# Altium schematic symbol library jlcpcb_2025_04_ferrites_extended_0805.schlib: 546 symbols (part 10 of 10)
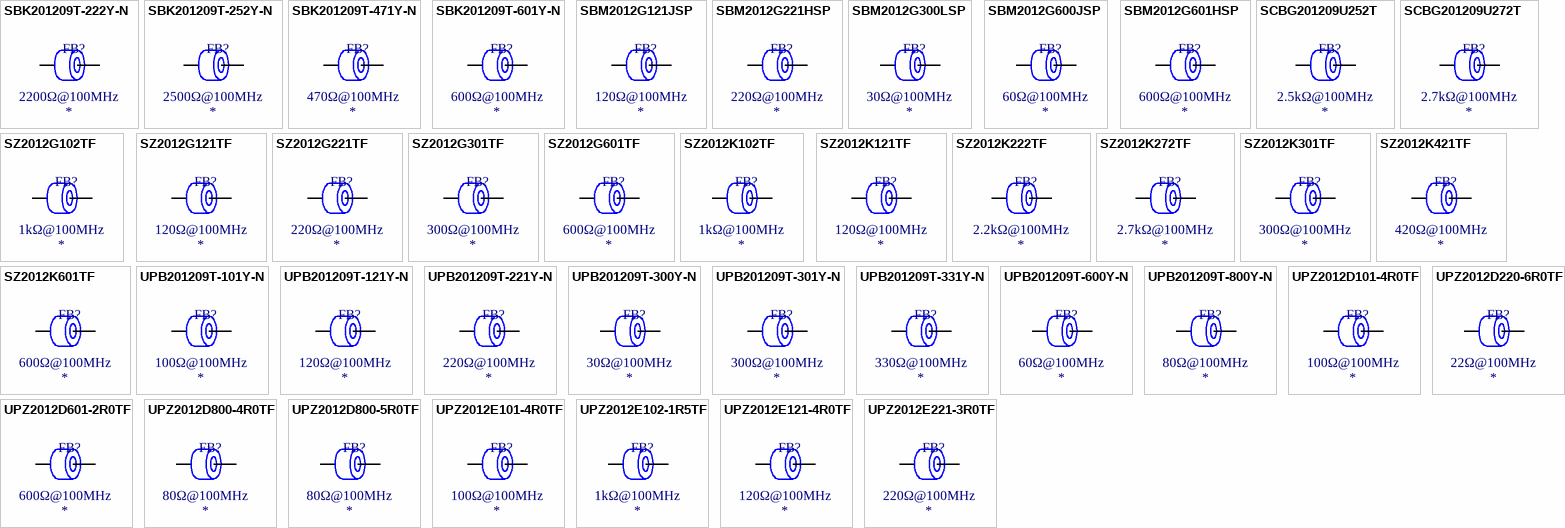
[diagram p22: symbols SBK201209T-222Y-N to UPZ2012E221-3R0TF]

## UPB201209T-331Y-N
designator FB?  Impedance @ Frequency: 330Ω@100MHz
Ferrite, 330Ω@100MHz, ±25%, 0.05Ω, 3000mA, SMD 0805; Manufacturer: Chilisin Elec; Manufacturer Part Number: UPB201209T-331Y-N; Package Size: 0805; JLCPCB Basic Part: No; JLCPCB Part Number: C108317; Supplier 1: LCSC; Category: Ferrite Beads; Supplier Part Number 1: C108317; Tolerance: ±25%; Rated Current: 3000mA; DC Resistance: 0.05Ω; RoHS: Yes; ComponentLink1Description: Datasheet; ComponentLink1URL: https://wmsc.lcsc.com/wmsc/upload/file/pdf/v2/lcsc/2304140030_Chilisin-Elec-UPB201209T-331Y-N_C108317.pdf; ComponentLink2Description: JLCPCB Part URL; ComponentLink2URL: https://jlcpcb.com/partdetail/C108317; ComponentLink3Description: LCSC Part URL; ComponentLink3URL: https://lcsc.com/product-detail/Ferrite-Beads_Chilisin-Elec-Chilisin-Elec-UPB201209T-331Y-N_C108317.html
footprint FB-0805 (0805 (2012M) Ferrite)
pins: 1, 2

## UPB201209T-600Y-N
designator FB?  Impedance @ Frequency: 60Ω@100MHz
Ferrite, 60Ω@100MHz, ±25%, 0.018Ω, 6000mA, SMD 0805; Manufacturer: Chilisin Elec; Manufacturer Part Number: UPB201209T-600Y-N; Package Size: 0805; JLCPCB Basic Part: No; JLCPCB Part Number: C285589; Supplier 1: LCSC; Category: Ferrite Beads; Supplier Part Number 1: C285589; Tolerance: ±25%; Rated Current: 6000mA; DC Resistance: 0.018Ω; RoHS: Yes; ComponentLink1Description: Datasheet; ComponentLink1URL: https://wmsc.lcsc.com/wmsc/upload/file/pdf/v2/lcsc/2304140030_Chilisin-Elec-UPB201209T-600Y-N_C285589.pdf; ComponentLink2Description: JLCPCB Part URL; ComponentLink2URL: https://jlcpcb.com/partdetail/C285589; ComponentLink3Description: LCSC Part URL; ComponentLink3URL: https://lcsc.com/product-detail/Ferrite-Beads_Chilisin-Elec-Chilisin-Elec-UPB201209T-600Y-N_C285589.html
footprint FB-0805 (0805 (2012M) Ferrite)
pins: 1, 2

## UPB201209T-800Y-N
designator FB?  Impedance @ Frequency: 80Ω@100MHz
Ferrite, 80Ω@100MHz, ±25%, 0.02Ω, 6000mA, SMD 0805; Manufacturer: Chilisin Elec; Manufacturer Part Number: UPB201209T-800Y-N; Package Size: 0805; JLCPCB Basic Part: No; JLCPCB Part Number: C142026; Supplier 1: LCSC; Category: Ferrite Beads; Supplier Part Number 1: C142026; Tolerance: ±25%; Rated Current: 6000mA; DC Resistance: 0.02Ω; RoHS: Yes; ComponentLink1Description: Datasheet; ComponentLink1URL: https://wmsc.lcsc.com/wmsc/upload/file/pdf/v2/lcsc/2304140030_Chilisin-Elec-UPB201209T-800Y-N_C142026.pdf; ComponentLink2Description: JLCPCB Part URL; ComponentLink2URL: https://jlcpcb.com/partdetail/C142026; ComponentLink3Description: LCSC Part URL; ComponentLink3URL: https://lcsc.com/product-detail/Ferrite-Beads_Chilisin-Elec-Chilisin-Elec-UPB201209T-800Y-N_C142026.html
footprint FB-0805 (0805 (2012M) Ferrite)
pins: 1, 2

## UPZ2012D101-4R0TF
designator FB?  Impedance @ Frequency: 100Ω@100MHz
Ferrite, 100Ω@100MHz, ±25%, 4A, SMD 0805; Manufacturer: Sunlord; Manufacturer Part Number: UPZ2012D101-4R0TF; Package Size: 0805; JLCPCB Basic Part: No; JLCPCB Part Number: C370576; Supplier 1: LCSC; Category: Ferrite Beads; Supplier Part Number 1: C370576; Tolerance: ±25%; Rated Current: 4A; RoHS: Yes; ComponentLink1Description: Datasheet; ComponentLink1URL: https://wmsc.lcsc.com/wmsc/upload/file/pdf/v2/lcsc/2310301642_Sunlord-UPZ2012D101-4R0TF_C370576.pdf; ComponentLink2Description: JLCPCB Part URL; ComponentLink2URL: https://jlcpcb.com/partdetail/C370576; ComponentLink3Description: LCSC Part URL; ComponentLink3URL: https://lcsc.com/product-detail/Ferrite-Beads_Sunlord-Sunlord-UPZ2012D101-4R0TF_C370576.html
pins: 1, 2

## UPZ2012D220-6R0TF
designator FB?  Impedance @ Frequency: 22Ω@100MHz
Ferrite, 22Ω@100MHz, ±25%, 10mΩ, 6A, SMD 0805; Manufacturer: Sunlord; Manufacturer Part Number: UPZ2012D220-6R0TF; Package Size: 0805; JLCPCB Basic Part: No; JLCPCB Part Number: C98305; Supplier 1: LCSC; Category: Ferrite Beads; Supplier Part Number 1: C98305; Tolerance: ±25%; Rated Current: 6A; DC Resistance: 10mΩ; RoHS: Yes; ComponentLink1Description: Datasheet; ComponentLink1URL: https://wmsc.lcsc.com/wmsc/upload/file/pdf/v2/lcsc/2310301642_Sunlord-UPZ2012D220-6R0TF_C98305.pdf; ComponentLink2Description: JLCPCB Part URL; ComponentLink2URL: https://jlcpcb.com/partdetail/C98305; ComponentLink3Description: LCSC Part URL; ComponentLink3URL: https://lcsc.com/product-detail/Ferrite-Beads_Sunlord-Sunlord-UPZ2012D220-6R0TF_C98305.html
footprint FB-0805 (0805 (2012M) Ferrite)
pins: 1, 2

## UPZ2012D601-2R0TF
designator FB?  Impedance @ Frequency: 600Ω@100MHz
Ferrite, 600Ω@100MHz, ±25%, 2A, SMD 0805; Manufacturer: Sunlord; Manufacturer Part Number: UPZ2012D601-2R0TF; Package Size: 0805; JLCPCB Basic Part: No; JLCPCB Part Number: C370578; Supplier 1: LCSC; Category: Ferrite Beads; Supplier Part Number 1: C370578; Tolerance: ±25%; Rated Current: 2A; RoHS: Yes; ComponentLink1Description: Datasheet; ComponentLink1URL: https://wmsc.lcsc.com/wmsc/upload/file/pdf/v2/lcsc/2310301642_Sunlord-UPZ2012D601-2R0TF_C370578.pdf; ComponentLink2Description: JLCPCB Part URL; ComponentLink2URL: https://jlcpcb.com/partdetail/C370578; ComponentLink3Description: LCSC Part URL; ComponentLink3URL: https://lcsc.com/product-detail/Ferrite-Beads_Sunlord-Sunlord-UPZ2012D601-2R0TF_C370578.html
pins: 1, 2

## UPZ2012D800-4R0TF
designator FB?  Impedance @ Frequency: 80Ω@100MHz
Ferrite, 80Ω@100MHz, ±25%, 20mΩ, 4A, SMD 0805; Manufacturer: Sunlord; Manufacturer Part Number: UPZ2012D800-4R0TF; Package Size: 0805; JLCPCB Basic Part: No; JLCPCB Part Number: C145060; Supplier 1: LCSC; Category: Ferrite Beads; Supplier Part Number 1: C145060; Tolerance: ±25%; Rated Current: 4A; DC Resistance: 20mΩ; RoHS: Yes; ComponentLink1Description: Datasheet; ComponentLink1URL: https://wmsc.lcsc.com/wmsc/upload/file/pdf/v2/lcsc/2310301642_Sunlord-UPZ2012D800-4R0TF_C145060.pdf; ComponentLink2Description: JLCPCB Part URL; ComponentLink2URL: https://jlcpcb.com/partdetail/C145060; ComponentLink3Description: LCSC Part URL; ComponentLink3URL: https://lcsc.com/product-detail/Ferrite-Beads_Sunlord-Sunlord-UPZ2012D800-4R0TF_C145060.html
footprint FB-0805 (0805 (2012M) Ferrite)
pins: 1, 2

## UPZ2012D800-5R0TF
designator FB?  Impedance @ Frequency: 80Ω@100MHz
Ferrite, 80Ω@100MHz, ±25%, 5A, SMD 0805; Manufacturer: Sunlord; Manufacturer Part Number: UPZ2012D800-5R0TF; Package Size: 0805; JLCPCB Basic Part: No; JLCPCB Part Number: C370579; Supplier 1: LCSC; Category: Ferrite Beads; Supplier Part Number 1: C370579; Tolerance: ±25%; Rated Current: 5A; RoHS: Yes; ComponentLink1Description: Datasheet; ComponentLink1URL: https://wmsc.lcsc.com/wmsc/upload/file/pdf/v2/lcsc/2310301642_Sunlord-UPZ2012D800-5R0TF_C370579.pdf; ComponentLink2Description: JLCPCB Part URL; ComponentLink2URL: https://jlcpcb.com/partdetail/C370579; ComponentLink3Description: LCSC Part URL; ComponentLink3URL: https://lcsc.com/product-detail/Ferrite-Beads_Sunlord-Sunlord-UPZ2012D800-5R0TF_C370579.html
pins: 1, 2

## UPZ2012E101-4R0TF
designator FB?  Impedance @ Frequency: 100Ω@100MHz
Ferrite, 100Ω@100MHz, ±25%, 4A, SMD 0805; Manufacturer: Sunlord; Manufacturer Part Number: UPZ2012E101-4R0TF; Package Size: 0805; JLCPCB Basic Part: No; JLCPCB Part Number: C370580; Supplier 1: LCSC; Category: Ferrite Beads; Supplier Part Number 1: C370580; Tolerance: ±25%; Rated Current: 4A; RoHS: Yes; ComponentLink1Description: Datasheet; ComponentLink1URL: https://wmsc.lcsc.com/wmsc/upload/file/pdf/v2/lcsc/2310301642_Sunlord-UPZ2012E101-4R0TF_C370580.pdf; ComponentLink2Description: JLCPCB Part URL; ComponentLink2URL: https://jlcpcb.com/partdetail/C370580; ComponentLink3Description: LCSC Part URL; ComponentLink3URL: https://lcsc.com/product-detail/Ferrite-Beads_Sunlord-Sunlord-UPZ2012E101-4R0TF_C370580.html
pins: 1, 2

## UPZ2012E102-1R5TF
designator FB?  Impedance @ Frequency: 1kΩ@100MHz
Ferrite, 1kΩ@100MHz, ±25%, 120mΩ, 1.5A, SMD 0805; Manufacturer: Sunlord; Manufacturer Part Number: UPZ2012E102-1R5TF; Package Size: 0805; JLCPCB Basic Part: No; JLCPCB Part Number: C98309; Supplier 1: LCSC; Category: Ferrite Beads; Supplier Part Number 1: C98309; Tolerance: ±25%; Rated Current: 1.5A; DC Resistance: 120mΩ; RoHS: Yes; ComponentLink1Description: Datasheet; ComponentLink1URL: https://wmsc.lcsc.com/wmsc/upload/file/pdf/v2/lcsc/2310301642_Sunlord-UPZ2012E102-1R5TF_C98309.pdf; ComponentLink2Description: JLCPCB Part URL; ComponentLink2URL: https://jlcpcb.com/partdetail/C98309; ComponentLink3Description: LCSC Part URL; ComponentLink3URL: https://lcsc.com/product-detail/Ferrite-Beads_Sunlord-Sunlord-UPZ2012E102-1R5TF_C98309.html
footprint FB-0805 (0805 (2012M) Ferrite)
pins: 1, 2

## UPZ2012E121-4R0TF
designator FB?  Impedance @ Frequency: 120Ω@100MHz
Ferrite, 120Ω@100MHz, ±25%, 20mΩ, 4A, SMD 0805; Manufacturer: Sunlord; Manufacturer Part Number: UPZ2012E121-4R0TF; Package Size: 0805; JLCPCB Basic Part: No; JLCPCB Part Number: C97001; Supplier 1: LCSC; Category: Ferrite Beads; Supplier Part Number 1: C97001; Tolerance: ±25%; Rated Current: 4A; DC Resistance: 20mΩ; RoHS: Yes; ComponentLink1Description: Datasheet; ComponentLink1URL: https://wmsc.lcsc.com/wmsc/upload/file/pdf/v2/lcsc/2310301642_Sunlord-UPZ2012E121-4R0TF_C97001.pdf; ComponentLink2Description: JLCPCB Part URL; ComponentLink2URL: https://jlcpcb.com/partdetail/C97001; ComponentLink3Description: LCSC Part URL; ComponentLink3URL: https://lcsc.com/product-detail/Ferrite-Beads_Sunlord-Sunlord-UPZ2012E121-4R0TF_C97001.html
footprint FB-0805 (0805 (2012M) Ferrite)
pins: 1, 2

## UPZ2012E221-3R0TF
designator FB?  Impedance @ Frequency: 220Ω@100MHz
Ferrite, 220Ω@100MHz, ±25%, 40mΩ, 3A, SMD 0805; Manufacturer: Sunlord; Manufacturer Part Number: UPZ2012E221-3R0TF; Package Size: 0805; JLCPCB Basic Part: No; JLCPCB Part Number: C154119; Supplier 1: LCSC; Category: Ferrite Beads; Supplier Part Number 1: C154119; Tolerance: ±25%; Rated Current: 3A; DC Resistance: 40mΩ; RoHS: Yes; ComponentLink1Description: Datasheet; ComponentLink1URL: https://wmsc.lcsc.com/wmsc/upload/file/pdf/v2/lcsc/2310301642_Sunlord-UPZ2012E221-3R0TF_C154119.pdf; ComponentLink2Description: JLCPCB Part URL; ComponentLink2URL: https://jlcpcb.com/partdetail/C154119; ComponentLink3Description: LCSC Part URL; ComponentLink3URL: https://lcsc.com/product-detail/Ferrite-Beads_Sunlord-Sunlord-UPZ2012E221-3R0TF_C154119.html
footprint FB-0805 (0805 (2012M) Ferrite)
pins: 1, 2

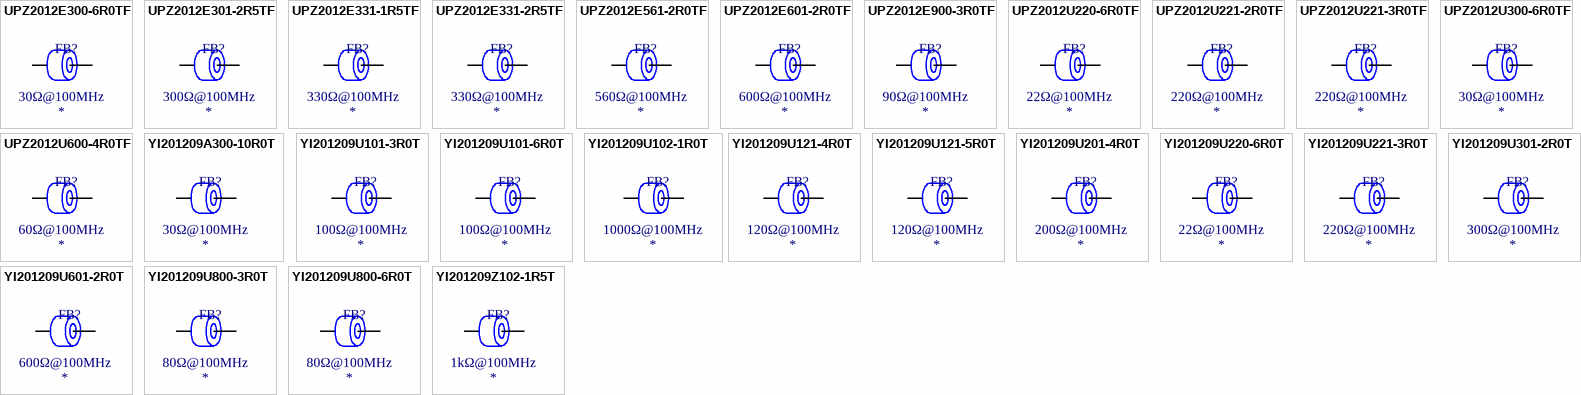
[diagram p13: symbols UPZ2012E300-6R0TF to YI201209Z102-1R5T]

## UPZ2012E300-6R0TF
designator FB?  Impedance @ Frequency: 30Ω@100MHz
Ferrite, 30Ω@100MHz, ±25%, 10mΩ, 6A, SMD 0805; Manufacturer: Sunlord; Manufacturer Part Number: UPZ2012E300-6R0TF; Package Size: 0805; JLCPCB Basic Part: No; JLCPCB Part Number: C98307; Supplier 1: LCSC; Category: Ferrite Beads; Supplier Part Number 1: C98307; Tolerance: ±25%; Rated Current: 6A; DC Resistance: 10mΩ; RoHS: Yes; ComponentLink1Description: Datasheet; ComponentLink1URL: https://wmsc.lcsc.com/wmsc/upload/file/pdf/v2/lcsc/2310301642_Sunlord-UPZ2012E300-6R0TF_C98307.pdf; ComponentLink2Description: JLCPCB Part URL; ComponentLink2URL: https://jlcpcb.com/partdetail/C98307; ComponentLink3Description: LCSC Part URL; ComponentLink3URL: https://lcsc.com/product-detail/Ferrite-Beads_Sunlord-Sunlord-UPZ2012E300-6R0TF_C98307.html
footprint FB-0805 (0805 (2012M) Ferrite)
pins: 1, 2

## UPZ2012E301-2R5TF
designator FB?  Impedance @ Frequency: 300Ω@100MHz
Ferrite, 300Ω@100MHz, ±25%, 2.5A, SMD 0805; Manufacturer: Sunlord; Manufacturer Part Number: UPZ2012E301-2R5TF; Package Size: 0805; JLCPCB Basic Part: No; JLCPCB Part Number: C316333; Supplier 1: LCSC; Category: Ferrite Beads; Supplier Part Number 1: C316333; Tolerance: ±25%; Rated Current: 2.5A; RoHS: Yes; ComponentLink1Description: Datasheet; ComponentLink1URL: https://wmsc.lcsc.com/wmsc/upload/file/pdf/v2/lcsc/2310301642_Sunlord-UPZ2012E301-2R5TF_C316333.pdf; ComponentLink2Description: JLCPCB Part URL; ComponentLink2URL: https://jlcpcb.com/partdetail/C316333; ComponentLink3Description: LCSC Part URL; ComponentLink3URL: https://lcsc.com/product-detail/Ferrite-Beads_Sunlord-Sunlord-UPZ2012E301-2R5TF_C316333.html
pins: 1, 2

## UPZ2012E331-1R5TF
designator FB?  Impedance @ Frequency: 330Ω@100MHz
Ferrite, 330Ω@100MHz, ±25%, 1.5A, SMD 0805; Manufacturer: Sunlord; Manufacturer Part Number: UPZ2012E331-1R5TF; Package Size: 0805; JLCPCB Basic Part: No; JLCPCB Part Number: C279902; Supplier 1: LCSC; Category: Ferrite Beads; Supplier Part Number 1: C279902; Tolerance: ±25%; Rated Current: 1.5A; RoHS: Yes; ComponentLink1Description: Datasheet; ComponentLink1URL: https://wmsc.lcsc.com/wmsc/upload/file/pdf/v2/lcsc/2310301642_Sunlord-UPZ2012E331-1R5TF_C279902.pdf; ComponentLink2Description: JLCPCB Part URL; ComponentLink2URL: https://jlcpcb.com/partdetail/C279902; ComponentLink3Description: LCSC Part URL; ComponentLink3URL: https://lcsc.com/product-detail/Ferrite-Beads_Sunlord-Sunlord-UPZ2012E331-1R5TF_C279902.html
pins: 1, 2

## UPZ2012E331-2R5TF
designator FB?  Impedance @ Frequency: 330Ω@100MHz
Ferrite, 330Ω@100MHz, ±25%, 50mΩ, 2.5A, SMD 0805; Manufacturer: Sunlord; Manufacturer Part Number: UPZ2012E331-2R5TF; Package Size: 0805; JLCPCB Basic Part: No; JLCPCB Part Number: C145062; Supplier 1: LCSC; Category: Ferrite Beads; Supplier Part Number 1: C145062; Tolerance: ±25%; Rated Current: 2.5A; DC Resistance: 50mΩ; RoHS: Yes; ComponentLink1Description: Datasheet; ComponentLink1URL: https://wmsc.lcsc.com/wmsc/upload/file/pdf/v2/lcsc/2310301642_Sunlord-UPZ2012E331-2R5TF_C145062.pdf; ComponentLink2Description: JLCPCB Part URL; ComponentLink2URL: https://jlcpcb.com/partdetail/C145062; ComponentLink3Description: LCSC Part URL; ComponentLink3URL: https://lcsc.com/product-detail/Ferrite-Beads_Sunlord-Sunlord-UPZ2012E331-2R5TF_C145062.html
footprint FB-0805 (0805 (2012M) Ferrite)
pins: 1, 2

## UPZ2012E561-2R0TF
designator FB?  Impedance @ Frequency: 560Ω@100MHz
Ferrite, 560Ω@100MHz, ±25%, 2A, SMD 0805; Manufacturer: Sunlord; Manufacturer Part Number: UPZ2012E561-2R0TF; Package Size: 0805; JLCPCB Basic Part: No; JLCPCB Part Number: C370581; Supplier 1: LCSC; Category: Ferrite Beads; Supplier Part Number 1: C370581; Tolerance: ±25%; Rated Current: 2A; RoHS: Yes; ComponentLink1Description: Datasheet; ComponentLink1URL: https://wmsc.lcsc.com/wmsc/upload/file/pdf/v2/lcsc/2310301642_Sunlord-UPZ2012E561-2R0TF_C370581.pdf; ComponentLink2Description: JLCPCB Part URL; ComponentLink2URL: https://jlcpcb.com/partdetail/C370581; ComponentLink3Description: LCSC Part URL; ComponentLink3URL: https://lcsc.com/product-detail/Ferrite-Beads_Sunlord-Sunlord-UPZ2012E561-2R0TF_C370581.html
pins: 1, 2

## UPZ2012E601-2R0TF
designator FB?  Impedance @ Frequency: 600Ω@100MHz
Ferrite, 600Ω@100MHz, ±25%, 90mΩ, 2A, SMD 0805; Manufacturer: Sunlord; Manufacturer Part Number: UPZ2012E601-2R0TF; Package Size: 0805; JLCPCB Basic Part: No; JLCPCB Part Number: C98308; Supplier 1: LCSC; Category: Ferrite Beads; Supplier Part Number 1: C98308; Tolerance: ±25%; Rated Current: 2A; DC Resistance: 90mΩ; RoHS: Yes; ComponentLink1Description: Datasheet; ComponentLink1URL: https://wmsc.lcsc.com/wmsc/upload/file/pdf/v2/lcsc/2310301642_Sunlord-UPZ2012E601-2R0TF_C98308.pdf; ComponentLink2Description: JLCPCB Part URL; ComponentLink2URL: https://jlcpcb.com/partdetail/C98308; ComponentLink3Description: LCSC Part URL; ComponentLink3URL: https://lcsc.com/product-detail/Ferrite-Beads_Sunlord-Sunlord-UPZ2012E601-2R0TF_C98308.html
footprint FB-0805 (0805 (2012M) Ferrite)
pins: 1, 2

## UPZ2012E900-3R0TF
designator FB?  Impedance @ Frequency: 90Ω@100MHz
Ferrite, 90Ω@100MHz, ±25%, 3A, SMD 0805; Manufacturer: Sunlord; Manufacturer Part Number: UPZ2012E900-3R0TF; Package Size: 0805; JLCPCB Basic Part: No; JLCPCB Part Number: C370582; Supplier 1: LCSC; Category: Ferrite Beads; Supplier Part Number 1: C370582; Tolerance: ±25%; Rated Current: 3A; RoHS: Yes; ComponentLink1Description: Datasheet; ComponentLink1URL: https://wmsc.lcsc.com/wmsc/upload/file/pdf/v2/lcsc/2310301642_Sunlord-UPZ2012E900-3R0TF_C370582.pdf; ComponentLink2Description: JLCPCB Part URL; ComponentLink2URL: https://jlcpcb.com/partdetail/C370582; ComponentLink3Description: LCSC Part URL; ComponentLink3URL: https://lcsc.com/product-detail/Ferrite-Beads_Sunlord-Sunlord-UPZ2012E900-3R0TF_C370582.html
pins: 1, 2

## UPZ2012U220-6R0TF
designator FB?  Impedance @ Frequency: 22Ω@100MHz
Ferrite, 22Ω@100MHz, ±25%, 10mΩ, 6A, SMD 0805; Manufacturer: Sunlord; Manufacturer Part Number: UPZ2012U220-6R0TF; Package Size: 0805; JLCPCB Basic Part: No; JLCPCB Part Number: C361652; Supplier 1: LCSC; Category: Ferrite Beads; Supplier Part Number 1: C361652; Tolerance: ±25%; Rated Current: 6A; DC Resistance: 10mΩ; RoHS: Yes; ComponentLink1Description: Datasheet; ComponentLink1URL: https://wmsc.lcsc.com/wmsc/upload/file/pdf/v2/lcsc/2310301642_Sunlord-UPZ2012U220-6R0TF_C361652.pdf; ComponentLink2Description: JLCPCB Part URL; ComponentLink2URL: https://jlcpcb.com/partdetail/C361652; ComponentLink3Description: LCSC Part URL; ComponentLink3URL: https://lcsc.com/product-detail/Ferrite-Beads_Sunlord-Sunlord-UPZ2012U220-6R0TF_C361652.html
footprint FB-0805 (0805 (2012M) Ferrite)
pins: 1, 2

## UPZ2012U221-2R0TF
designator FB?  Impedance @ Frequency: 220Ω@100MHz
Ferrite, 220Ω@100MHz, ±25%, 2A, SMD 0805; Manufacturer: Sunlord; Manufacturer Part Number: UPZ2012U221-2R0TF; Package Size: 0805; JLCPCB Basic Part: No; JLCPCB Part Number: C316332; Supplier 1: LCSC; Category: Ferrite Beads; Supplier Part Number 1: C316332; Tolerance: ±25%; Rated Current: 2A; RoHS: Yes; ComponentLink1Description: Datasheet; ComponentLink1URL: https://wmsc.lcsc.com/wmsc/upload/file/pdf/v2/lcsc/2312271747_Sunlord-UPZ2012U221-2R0TF_C316332.pdf; ComponentLink2Description: JLCPCB Part URL; ComponentLink2URL: https://jlcpcb.com/partdetail/C316332; ComponentLink3Description: LCSC Part URL; ComponentLink3URL: https://lcsc.com/product-detail/Ferrite-Beads_Sunlord-Sunlord-UPZ2012U221-2R0TF_C316332.html
pins: 1, 2

## UPZ2012U221-3R0TF
designator FB?  Impedance @ Frequency: 220Ω@100MHz
Ferrite, 220Ω@100MHz, ±25%, 40mΩ, 3A, SMD 0805; Manufacturer: Sunlord; Manufacturer Part Number: UPZ2012U221-3R0TF; Package Size: 0805; JLCPCB Basic Part: No; JLCPCB Part Number: C56066; Supplier 1: LCSC; Category: Ferrite Beads; Supplier Part Number 1: C56066; Tolerance: ±25%; Rated Current: 3A; DC Resistance: 40mΩ; RoHS: Yes; ComponentLink1Description: Datasheet; ComponentLink1URL: https://wmsc.lcsc.com/wmsc/upload/file/pdf/v2/lcsc/2310301642_Sunlord-UPZ2012U221-3R0TF_C56066.pdf; ComponentLink2Description: JLCPCB Part URL; ComponentLink2URL: https://jlcpcb.com/partdetail/C56066; ComponentLink3Description: LCSC Part URL; ComponentLink3URL: https://lcsc.com/product-detail/Ferrite-Beads_Sunlord-Sunlord-UPZ2012U221-3R0TF_C56066.html
footprint FB-0805 (0805 (2012M) Ferrite)
pins: 1, 2

## UPZ2012U300-6R0TF
designator FB?  Impedance @ Frequency: 30Ω@100MHz
Ferrite, 30Ω@100MHz, ±25%, 10mΩ, 6A, SMD 0805; Manufacturer: Sunlord; Manufacturer Part Number: UPZ2012U300-6R0TF; Package Size: 0805; JLCPCB Basic Part: No; JLCPCB Part Number: C98306; Supplier 1: LCSC; Category: Ferrite Beads; Supplier Part Number 1: C98306; Tolerance: ±25%; Rated Current: 6A; DC Resistance: 10mΩ; RoHS: Yes; ComponentLink1Description: Datasheet; ComponentLink1URL: https://wmsc.lcsc.com/wmsc/upload/file/pdf/v2/lcsc/2310301642_Sunlord-UPZ2012U300-6R0TF_C98306.pdf; ComponentLink2Description: JLCPCB Part URL; ComponentLink2URL: https://jlcpcb.com/partdetail/C98306; ComponentLink3Description: LCSC Part URL; ComponentLink3URL: https://lcsc.com/product-detail/Ferrite-Beads_Sunlord-Sunlord-UPZ2012U300-6R0TF_C98306.html
footprint FB-0805 (0805 (2012M) Ferrite)
pins: 1, 2

## UPZ2012U600-4R0TF
designator FB?  Impedance @ Frequency: 60Ω@100MHz
Ferrite, 60Ω@100MHz, ±25%, 20mΩ, 4A, SMD 0805; Manufacturer: Sunlord; Manufacturer Part Number: UPZ2012U600-4R0TF; Package Size: 0805; JLCPCB Basic Part: No; JLCPCB Part Number: C145061; Supplier 1: LCSC; Category: Ferrite Beads; Supplier Part Number 1: C145061; Tolerance: ±25%; Rated Current: 4A; DC Resistance: 20mΩ; RoHS: Yes; ComponentLink1Description: Datasheet; ComponentLink1URL: https://wmsc.lcsc.com/wmsc/upload/file/pdf/v2/lcsc/2310301642_Sunlord-UPZ2012U600-4R0TF_C145061.pdf; ComponentLink2Description: JLCPCB Part URL; ComponentLink2URL: https://jlcpcb.com/partdetail/C145061; ComponentLink3Description: LCSC Part URL; ComponentLink3URL: https://lcsc.com/product-detail/Ferrite-Beads_Sunlord-Sunlord-UPZ2012U600-4R0TF_C145061.html
footprint FB-0805 (0805 (2012M) Ferrite)
pins: 1, 2

## YI201209A300-10R0T
designator FB?  Impedance @ Frequency: 30Ω@100MHz
Ferrite, 30Ω@100MHz, ±25%, 3mΩ, 10A, SMD 0805; Manufacturer: YJYCOIN; Manufacturer Part Number: YI201209A300-10R0T; Package Size: 0805; JLCPCB Basic Part: No; JLCPCB Part Number: C20416195; Supplier 1: LCSC; Category: Ferrite Beads; Supplier Part Number 1: C20416195; Tolerance: ±25%; Rated Current: 10A; DC Resistance: 3mΩ; RoHS: Yes; ComponentLink1Description: Datasheet; ComponentLink1URL: https://wmsc.lcsc.com/wmsc/upload/file/pdf/v2/lcsc/2401051808_YJYCOIN-YI201209A300-10R0T_C20416195.pdf; ComponentLink2Description: JLCPCB Part URL; ComponentLink2URL: https://jlcpcb.com/partdetail/C20416195; ComponentLink3Description: LCSC Part URL; ComponentLink3URL: https://lcsc.com/product-detail/Ferrite-Beads_YJYCOIN-YJYCOIN-YI201209A300-10R0T_C20416195.html
footprint FB-0805 (0805 (2012M) Ferrite)
pins: 1, 2

## YI201209U101-3R0T
designator FB?  Impedance @ Frequency: 100Ω@100MHz
Ferrite, 100Ω@100MHz, ±25%, 60mΩ, 3A, SMD 0805; Manufacturer: YJYCOIN; Manufacturer Part Number: YI201209U101-3R0T; Package Size: 0805; JLCPCB Basic Part: No; JLCPCB Part Number: C3011216; Supplier 1: LCSC; Category: Ferrite Beads; Supplier Part Number 1: C3011216; Tolerance: ±25%; Rated Current: 3A; DC Resistance: 60mΩ; RoHS: Yes; ComponentLink1Description: Datasheet; ComponentLink1URL: https://wmsc.lcsc.com/wmsc/upload/file/pdf/v2/lcsc/2205091530_YJYCOIN-YI201209U101-3R0T_C3011216.pdf; ComponentLink2Description: JLCPCB Part URL; ComponentLink2URL: https://jlcpcb.com/partdetail/C3011216; ComponentLink3Description: LCSC Part URL; ComponentLink3URL: https://lcsc.com/product-detail/Ferrite-Beads_YJYCOIN-YJYCOIN-YI201209U101-3R0T_C3011216.html
footprint FB-0805 (0805 (2012M) Ferrite)
pins: 1, 2

## YI201209U101-6R0T
designator FB?  Impedance @ Frequency: 100Ω@100MHz
Ferrite, 100Ω@100MHz, ±25%, 0.02Ω, 6A, SMD 0805; Manufacturer: YJYCOIN; Manufacturer Part Number: YI201209U101-6R0T; Package Size: 0805; JLCPCB Basic Part: No; JLCPCB Part Number: C2971888; Supplier 1: LCSC; Category: Ferrite Beads; Supplier Part Number 1: C2971888; Tolerance: ±25%; Rated Current: 6A; DC Resistance: 0.02Ω; RoHS: Yes; ComponentLink1Description: Datasheet; ComponentLink1URL: https://wmsc.lcsc.com/wmsc/upload/file/pdf/v2/lcsc/2201241630_YJYCOIN-YI201209U101-6R0T_C2971888.pdf; ComponentLink2Description: JLCPCB Part URL; ComponentLink2URL: https://jlcpcb.com/partdetail/C2971888; ComponentLink3Description: LCSC Part URL; ComponentLink3URL: https://lcsc.com/product-detail/Ferrite-Beads_YJYCOIN-YJYCOIN-YI201209U101-6R0T_C2971888.html
footprint FB-0805 (0805 (2012M) Ferrite)
pins: 1, 2

## YI201209U102-1R0T
designator FB?  Impedance @ Frequency: 1000Ω@100MHz
Ferrite, 1000Ω@100MHz, ±25%, 0.30Ω, 1A, SMD 0805; Manufacturer: YJYCOIN; Manufacturer Part Number: YI201209U102-1R0T; Package Size: 0805; JLCPCB Basic Part: No; JLCPCB Part Number: C3011218; Supplier 1: LCSC; Category: Ferrite Beads; Supplier Part Number 1: C3011218; Tolerance: ±25%; Rated Current: 1A; DC Resistance: 0.30Ω; RoHS: Yes; ComponentLink1Description: Datasheet; ComponentLink1URL: https://wmsc.lcsc.com/wmsc/upload/file/pdf/v2/lcsc/2205091530_YJYCOIN-YI201209U102-1R0T_C3011218.pdf; ComponentLink2Description: JLCPCB Part URL; ComponentLink2URL: https://jlcpcb.com/partdetail/C3011218; ComponentLink3Description: LCSC Part URL; ComponentLink3URL: https://lcsc.com/product-detail/Ferrite-Beads_YJYCOIN-YJYCOIN-YI201209U102-1R0T_C3011218.html
footprint FB-0805 (0805 (2012M) Ferrite)
pins: 1, 2

## YI201209U121-4R0T
designator FB?  Impedance @ Frequency: 120Ω@100MHz
Ferrite, 120Ω@100MHz, ±25%, 50mΩ, 4A, SMD 0805; Manufacturer: YJYCOIN; Manufacturer Part Number: YI201209U121-4R0T; Package Size: 0805; JLCPCB Basic Part: No; JLCPCB Part Number: C3011217; Supplier 1: LCSC; Category: Ferrite Beads; Supplier Part Number 1: C3011217; Tolerance: ±25%; Rated Current: 4A; DC Resistance: 50mΩ; RoHS: Yes; ComponentLink1Description: Datasheet; ComponentLink1URL: https://wmsc.lcsc.com/wmsc/upload/file/pdf/v2/lcsc/2205091530_YJYCOIN-YI201209U121-4R0T_C3011217.pdf; ComponentLink2Description: JLCPCB Part URL; ComponentLink2URL: https://jlcpcb.com/partdetail/C3011217; ComponentLink3Description: LCSC Part URL; ComponentLink3URL: https://lcsc.com/product-detail/Ferrite-Beads_YJYCOIN-YJYCOIN-YI201209U121-4R0T_C3011217.html
footprint FB-0805 (0805 (2012M) Ferrite)
pins: 1, 2

## YI201209U121-5R0T
designator FB?  Impedance @ Frequency: 120Ω@100MHz
Ferrite, 120Ω@100MHz, ±25%, 0.03Ω, 5A, SMD 0805; Manufacturer: YJYCOIN; Manufacturer Part Number: YI201209U121-5R0T; Package Size: 0805; JLCPCB Basic Part: No; JLCPCB Part Number: C2971889; Supplier 1: LCSC; Category: Ferrite Beads; Supplier Part Number 1: C2971889; Tolerance: ±25%; Rated Current: 5A; DC Resistance: 0.03Ω; RoHS: Yes; ComponentLink1Description: Datasheet; ComponentLink1URL: https://wmsc.lcsc.com/wmsc/upload/file/pdf/v2/lcsc/2201241630_YJYCOIN-YI201209U121-5R0T_C2971889.pdf; ComponentLink2Description: JLCPCB Part URL; ComponentLink2URL: https://jlcpcb.com/partdetail/C2971889; ComponentLink3Description: LCSC Part URL; ComponentLink3URL: https://lcsc.com/product-detail/Ferrite-Beads_YJYCOIN-YJYCOIN-YI201209U121-5R0T_C2971889.html
footprint FB-0805 (0805 (2012M) Ferrite)
pins: 1, 2

## YI201209U201-4R0T
designator FB?  Impedance @ Frequency: 200Ω@100MHz
Ferrite, 200Ω@100MHz, ±25%, 35mΩ, 4A, SMD 0805; Manufacturer: YJYCOIN; Manufacturer Part Number: YI201209U201-4R0T; Package Size: 0805; JLCPCB Basic Part: No; JLCPCB Part Number: C7541655; Supplier 1: LCSC; Category: Ferrite Beads; Supplier Part Number 1: C7541655; Tolerance: ±25%; Rated Current: 4A; DC Resistance: 35mΩ; RoHS: Yes; ComponentLink1Description: Datasheet; ComponentLink1URL: https://wmsc.lcsc.com/wmsc/upload/file/pdf/v2/lcsc/2308221104_YJYCOIN-YI201209U201-4R0T_C7541655.pdf; ComponentLink2Description: JLCPCB Part URL; ComponentLink2URL: https://jlcpcb.com/partdetail/C7541655; ComponentLink3Description: LCSC Part URL; ComponentLink3URL: https://lcsc.com/product-detail/Ferrite-Beads_YJYCOIN-YJYCOIN-YI201209U201-4R0T_C7541655.html
footprint FB-0805 (0805 (2012M) Ferrite)
pins: 1, 2

## YI201209U220-6R0T
designator FB?  Impedance @ Frequency: 22Ω@100MHz
Ferrite, 22Ω@100MHz, ±25%, 25mΩ, 6A, SMD 0805; Manufacturer: YJYCOIN; Manufacturer Part Number: YI201209U220-6R0T; Package Size: 0805; JLCPCB Basic Part: No; JLCPCB Part Number: C2971886; Supplier 1: LCSC; Category: Ferrite Beads; Supplier Part Number 1: C2971886; Tolerance: ±25%; Rated Current: 6A; DC Resistance: 25mΩ; RoHS: Yes; ComponentLink1Description: Datasheet; ComponentLink1URL: https://wmsc.lcsc.com/wmsc/upload/file/pdf/v2/lcsc/2201241630_YJYCOIN-YI201209U220-6R0T_C2971886.pdf; ComponentLink2Description: JLCPCB Part URL; ComponentLink2URL: https://jlcpcb.com/partdetail/C2971886; ComponentLink3Description: LCSC Part URL; ComponentLink3URL: https://lcsc.com/product-detail/Ferrite-Beads_YJYCOIN-YJYCOIN-YI201209U220-6R0T_C2971886.html
footprint FB-0805 (0805 (2012M) Ferrite)
pins: 1, 2

## YI201209U221-3R0T
designator FB?  Impedance @ Frequency: 220Ω@100MHz
Ferrite, 220Ω@100MHz, ±25%, 80mΩ, 3A, SMD 0805; Manufacturer: YJYCOIN; Manufacturer Part Number: YI201209U221-3R0T; Package Size: 0805; JLCPCB Basic Part: No; JLCPCB Part Number: C2858466; Supplier 1: LCSC; Category: Ferrite Beads; Supplier Part Number 1: C2858466; Tolerance: ±25%; Rated Current: 3A; DC Resistance: 80mΩ; RoHS: Yes; ComponentLink1Description: Datasheet; ComponentLink2Description: JLCPCB Part URL; ComponentLink2URL: https://jlcpcb.com/partdetail/C2858466; ComponentLink3Description: LCSC Part URL; ComponentLink3URL: https://lcsc.com/product-detail/Ferrite-Beads_YJYCOIN-YJYCOIN-YI201209U221-3R0T_C2858466.html
footprint FB-0805 (0805 (2012M) Ferrite)
pins: 1, 2

## YI201209U301-2R0T
designator FB?  Impedance @ Frequency: 300Ω@100MHz
Ferrite, 300Ω@100MHz, ±25%, 100mΩ, 2A, SMD 0805; Manufacturer: YJYCOIN; Manufacturer Part Number: YI201209U301-2R0T; Package Size: 0805; JLCPCB Basic Part: No; JLCPCB Part Number: C2858467; Supplier 1: LCSC; Category: Ferrite Beads; Supplier Part Number 1: C2858467; Tolerance: ±25%; Rated Current: 2A; DC Resistance: 100mΩ; RoHS: Yes; ComponentLink1Description: Datasheet; ComponentLink2Description: JLCPCB Part URL; ComponentLink2URL: https://jlcpcb.com/partdetail/C2858467; ComponentLink3Description: LCSC Part URL; ComponentLink3URL: https://lcsc.com/product-detail/Ferrite-Beads_YJYCOIN-YJYCOIN-YI201209U301-2R0T_C2858467.html
footprint FB-0805 (0805 (2012M) Ferrite)
pins: 1, 2

## YI201209U601-2R0T
designator FB?  Impedance @ Frequency: 600Ω@100MHz
Ferrite, 600Ω@100MHz, ±25%, 150mΩ, 2A, SMD 0805; Manufacturer: YJYCOIN; Manufacturer Part Number: YI201209U601-2R0T; Package Size: 0805; JLCPCB Basic Part: No; JLCPCB Part Number: C2858468; Supplier 1: LCSC; Category: Ferrite Beads; Supplier Part Number 1: C2858468; Tolerance: ±25%; Rated Current: 2A; DC Resistance: 150mΩ; RoHS: Yes; ComponentLink1Description: Datasheet; ComponentLink2Description: JLCPCB Part URL; ComponentLink2URL: https://jlcpcb.com/partdetail/C2858468; ComponentLink3Description: LCSC Part URL; ComponentLink3URL: https://lcsc.com/product-detail/Ferrite-Beads_YJYCOIN-YJYCOIN-YI201209U601-2R0T_C2858468.html
footprint FB-0805 (0805 (2012M) Ferrite)
pins: 1, 2

## YI201209U800-3R0T
designator FB?  Impedance @ Frequency: 80Ω@100MHz
Ferrite, 80Ω@100MHz, ±25%, 100mΩ, 3A, SMD 0805; Manufacturer: YJYCOIN; Manufacturer Part Number: YI201209U800-3R0T; Package Size: 0805; JLCPCB Basic Part: No; JLCPCB Part Number: C3011215; Supplier 1: LCSC; Category: Ferrite Beads; Supplier Part Number 1: C3011215; Tolerance: ±25%; Rated Current: 3A; DC Resistance: 100mΩ; RoHS: Yes; ComponentLink1Description: Datasheet; ComponentLink1URL: https://wmsc.lcsc.com/wmsc/upload/file/pdf/v2/lcsc/2205091530_YJYCOIN-YI201209U800-3R0T_C3011215.pdf; ComponentLink2Description: JLCPCB Part URL; ComponentLink2URL: https://jlcpcb.com/partdetail/C3011215; ComponentLink3Description: LCSC Part URL; ComponentLink3URL: https://lcsc.com/product-detail/Ferrite-Beads_YJYCOIN-YJYCOIN-YI201209U800-3R0T_C3011215.html
footprint FB-0805 (0805 (2012M) Ferrite)
pins: 1, 2

## YI201209U800-6R0T
designator FB?  Impedance @ Frequency: 80Ω@100MHz
Ferrite, 80Ω@100MHz, ±25%, 20mΩ, 6A, SMD 0805; Manufacturer: YJYCOIN; Manufacturer Part Number: YI201209U800-6R0T; Package Size: 0805; JLCPCB Basic Part: No; JLCPCB Part Number: C2971887; Supplier 1: LCSC; Category: Ferrite Beads; Supplier Part Number 1: C2971887; Tolerance: ±25%; Rated Current: 6A; DC Resistance: 20mΩ; RoHS: Yes; ComponentLink1Description: Datasheet; ComponentLink1URL: https://wmsc.lcsc.com/wmsc/upload/file/pdf/v2/lcsc/2201241630_YJYCOIN-YI201209U800-6R0T_C2971887.pdf; ComponentLink2Description: JLCPCB Part URL; ComponentLink2URL: https://jlcpcb.com/partdetail/C2971887; ComponentLink3Description: LCSC Part URL; ComponentLink3URL: https://lcsc.com/product-detail/Ferrite-Beads_YJYCOIN-YJYCOIN-YI201209U800-6R0T_C2971887.html
footprint FB-0805 (0805 (2012M) Ferrite)
pins: 1, 2

## YI201209Z102-1R5T
designator FB?  Impedance @ Frequency: 1kΩ@100MHz
Ferrite, 1kΩ@100MHz, ±25%, 120mΩ, 1.5A, SMD 0805; Manufacturer: YJYCOIN; Manufacturer Part Number: YI201209Z102-1R5T; Package Size: 0805; JLCPCB Basic Part: No; JLCPCB Part Number: C20416199; Supplier 1: LCSC; Category: Ferrite Beads; Supplier Part Number 1: C20416199; Tolerance: ±25%; Rated Current: 1.5A; DC Resistance: 120mΩ; RoHS: Yes; ComponentLink1Description: Datasheet; ComponentLink1URL: https://wmsc.lcsc.com/wmsc/upload/file/pdf/v2/lcsc/2401051808_YJYCOIN-YI201209Z102-1R5T_C20416199.pdf; ComponentLink2Description: JLCPCB Part URL; ComponentLink2URL: https://jlcpcb.com/partdetail/C20416199; ComponentLink3Description: LCSC Part URL; ComponentLink3URL: https://lcsc.com/product-detail/Ferrite-Beads_YJYCOIN-YJYCOIN-YI201209Z102-1R5T_C20416199.html
footprint FB-0805 (0805 (2012M) Ferrite)
pins: 1, 2